# Altium schematic symbol library Crystal.SchLib: 1 symbol
Pins are listed as number, name and electrical type; pins without a type are passive.

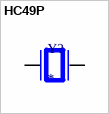
[diagram p0: symbol HC49P]

## HC49P
designator Y?
16MHz Â±30ppm Crystal 30pF 40 Ohms HC-49/US; MP: LFXTAL003240BULK; MF: IQD Frequency Products; Price: None; SnapEDA_Link: https://www.snapeda.com/parts/LFXTAL003240BULK/IQD%20Frequency%20Products/view-part/2463585/?ref=snap; Availability: Unavailable; Value: *; Package: HC-49/US IQD Frequency Products
footprint HC49P488W45L1105T470H410
pins: 1, 2